# Altium integrated library NSC Switcher.IntLib: 2027 symbols (part 44 of 54)
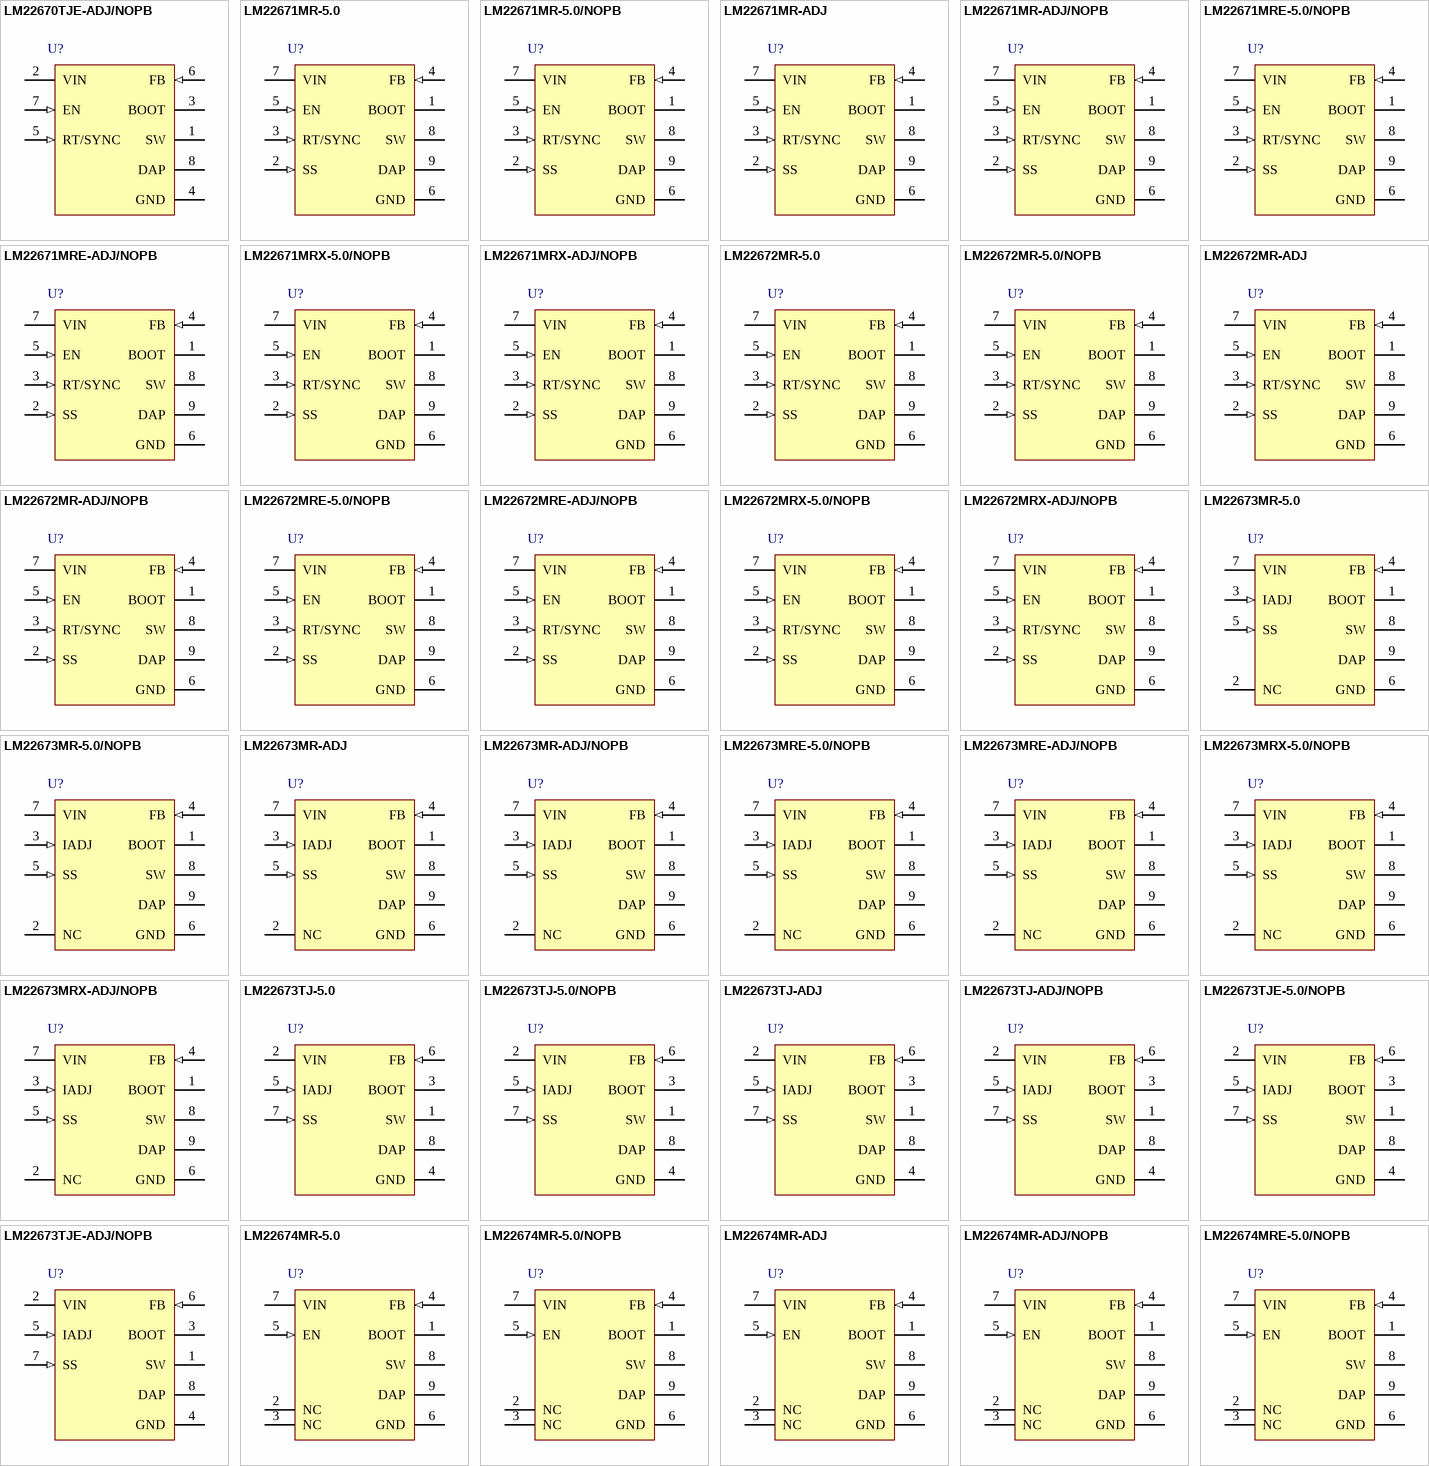
[diagram p106: symbols LM22670TJE-ADJ/NOPB to LM22674MRE-5.0/NOPB]

## LM22671MR-ADJ/NOPB
designator U?
500 mA SIMPLE SWITCHER®, Step-Down Voltage Regulator with Features, 8-pin PSOP, Pb-Free; PartNumber: LM22671MR-ADJ/NOPB; Manufacturer: National Semiconductor; PackageTopMarking: NSXYTT*L22671*ADJ; PowerWise: N; Published: 1-Mar-2010; DatasheetVersion: Oct-2008; PackageVersion: revB, Dec-2007; PackageReference: MRA08B; Publisher: Altium Limited; PackageDescription: Molded, PSOP .193 x .154 x .058in, 8 Lead, .050in Pitch, Large DAP; Supplier 1: Digi-Key; Supplier Part Number 1: LM22671MR-ADJ-ND; RoHS: Y; PinCount: 8; CompType: Switcher; Code_JEDEC: MS-012-AA; ComponentLink1Description: LM22671 Datasheet; ComponentLink1URL: http://www.national.com/ds/LM/LM22671.pdf; ComponentLink2Description: LM22671 Web Page; ComponentLink2URL: http://www.national.com/pf/LM/LM22671.html; ComponentLink3Description: MRA08B Package Page; ComponentLink3URL: http://www.national.com/packaging/folders/mra08b.html
footprint MRA08B_N (SOIC, 8-Leads, Body 4.9x3.9mm, Pitch 1.27mm, Exposed Pad, IPC Medium Density)
footprint MRA08B_L (SOIC, 8-Leads, Body 4.9x3.9mm, Pitch 1.27mm, Exposed Pad, IPC High Density)
footprint MRA08B_M (SOIC, 8-Leads, Body 4.9x3.9mm, Pitch 1.27mm, Exposed Pad, IPC Low Density)
pins: 1 BOOT, 2 SS (in), 3 RT/SYNC (in), 4 FB (in), 5 EN (in), 6 GND (power), 7 VIN (power), 8 SW (power), 9 DAP (power)

## LM22671MRE-5.0/NOPB
designator U?
500 mA SIMPLE SWITCHER®, Step-Down Voltage Regulator with Features, 8-pin PSOP, Pb-Free; PartNumber: LM22671MRE-5.0/NOPB; Manufacturer: National Semiconductor; PackageTopMarking: NSXYTT*L22671*5.0; PowerWise: N; Published: 1-Mar-2010; DatasheetVersion: Oct-2008; PackageVersion: revB, Dec-2007; PackageReference: MRA08B; Publisher: Altium Limited; PackageDescription: Molded, PSOP .193 x .154 x .058in, 8 Lead, .050in Pitch, Large DAP; Supplier 1: Digi-Key; Supplier Part Number 1: LM22671MRE-5.0TR-ND; Supplier 2: Digi-Key; Supplier Part Number 2: LM22671MRE-5.0CT-ND; Supplier 3: Digi-Key; Supplier Part Number 3: LM22671MRE-5.0DKR-ND; Supplier 4: Farnell; Supplier Part Number 4: 1685796; RoHS: Y; PinCount: 8; CompType: Switcher; Code_JEDEC: MS-012-AA; ComponentLink1Description: LM22671 Datasheet; ComponentLink1URL: http://www.national.com/ds/LM/LM22671.pdf; ComponentLink2Description: LM22671 Web Page; ComponentLink2URL: http://www.national.com/pf/LM/LM22671.html; ComponentLink3Description: MRA08B Package Page; ComponentLink3URL: http://www.national.com/packaging/folders/mra08b.html
footprint MRA08B_N (SOIC, 8-Leads, Body 4.9x3.9mm, Pitch 1.27mm, Exposed Pad, IPC Medium Density)
footprint MRA08B_L (SOIC, 8-Leads, Body 4.9x3.9mm, Pitch 1.27mm, Exposed Pad, IPC High Density)
footprint MRA08B_M (SOIC, 8-Leads, Body 4.9x3.9mm, Pitch 1.27mm, Exposed Pad, IPC Low Density)
pins: 1 BOOT, 2 SS (in), 3 RT/SYNC (in), 4 FB (in), 5 EN (in), 6 GND (power), 7 VIN (power), 8 SW (power), 9 DAP (power)

## LM22671MRE-ADJ/NOPB
designator U?
500 mA SIMPLE SWITCHER®, Step-Down Voltage Regulator with Features, 8-pin PSOP, Pb-Free; PartNumber: LM22671MRE-ADJ/NOPB; Manufacturer: National Semiconductor; PackageTopMarking: NSXYTT*L22671*ADJ; PowerWise: N; Published: 1-Mar-2010; DatasheetVersion: Oct-2008; PackageVersion: revB, Dec-2007; PackageReference: MRA08B; Publisher: Altium Limited; PackageDescription: Molded, PSOP .193 x .154 x .058in, 8 Lead, .050in Pitch, Large DAP; Supplier 1: Digi-Key; Supplier Part Number 1: LM22671MRE-ADJTR-ND; Supplier 2: Digi-Key; Supplier Part Number 2: LM22671MRE-ADJCT-ND; Supplier 3: Digi-Key; Supplier Part Number 3: LM22671MRE-ADJDKR-ND; Supplier 4: Farnell; Supplier Part Number 4: 1685795; RoHS: Y; PinCount: 8; CompType: Switcher; Code_JEDEC: MS-012-AA; ComponentLink1Description: LM22671 Datasheet; ComponentLink1URL: http://www.national.com/ds/LM/LM22671.pdf; ComponentLink2Description: LM22671 Web Page; ComponentLink2URL: http://www.national.com/pf/LM/LM22671.html; ComponentLink3Description: MRA08B Package Page; ComponentLink3URL: http://www.national.com/packaging/folders/mra08b.html
footprint MRA08B_N (SOIC, 8-Leads, Body 4.9x3.9mm, Pitch 1.27mm, Exposed Pad, IPC Medium Density)
footprint MRA08B_L (SOIC, 8-Leads, Body 4.9x3.9mm, Pitch 1.27mm, Exposed Pad, IPC High Density)
footprint MRA08B_M (SOIC, 8-Leads, Body 4.9x3.9mm, Pitch 1.27mm, Exposed Pad, IPC Low Density)
pins: 1 BOOT, 2 SS (in), 3 RT/SYNC (in), 4 FB (in), 5 EN (in), 6 GND (power), 7 VIN (power), 8 SW (power), 9 DAP (power)

## LM22671MRX-5.0/NOPB
designator U?
500 mA SIMPLE SWITCHER®, Step-Down Voltage Regulator with Features, 8-pin PSOP, Pb-Free; PartNumber: LM22671MRX-5.0/NOPB; Manufacturer: National Semiconductor; PackageTopMarking: NSXYTT*L22671*5.0; PowerWise: N; Published: 1-Mar-2010; DatasheetVersion: Oct-2008; PackageVersion: revB, Dec-2007; PackageReference: MRA08B; Publisher: Altium Limited; PackageDescription: Molded, PSOP .193 x .154 x .058in, 8 Lead, .050in Pitch, Large DAP; Supplier 1: Digi-Key; Supplier Part Number 1: LM22671MRX-5.0-ND; RoHS: Y; PinCount: 8; CompType: Switcher; Code_JEDEC: MS-012-AA; ComponentLink1Description: LM22671 Datasheet; ComponentLink1URL: http://www.national.com/ds/LM/LM22671.pdf; ComponentLink2Description: LM22671 Web Page; ComponentLink2URL: http://www.national.com/pf/LM/LM22671.html; ComponentLink3Description: MRA08B Package Page; ComponentLink3URL: http://www.national.com/packaging/folders/mra08b.html
footprint MRA08B_N (SOIC, 8-Leads, Body 4.9x3.9mm, Pitch 1.27mm, Exposed Pad, IPC Medium Density)
footprint MRA08B_L (SOIC, 8-Leads, Body 4.9x3.9mm, Pitch 1.27mm, Exposed Pad, IPC High Density)
footprint MRA08B_M (SOIC, 8-Leads, Body 4.9x3.9mm, Pitch 1.27mm, Exposed Pad, IPC Low Density)
pins: 1 BOOT, 2 SS (in), 3 RT/SYNC (in), 4 FB (in), 5 EN (in), 6 GND (power), 7 VIN (power), 8 SW (power), 9 DAP (power)

## LM22671MRX-ADJ/NOPB
designator U?
500 mA SIMPLE SWITCHER®, Step-Down Voltage Regulator with Features, 8-pin PSOP, Pb-Free; PartNumber: LM22671MRX-ADJ/NOPB; Manufacturer: National Semiconductor; PackageTopMarking: NSXYTT*L22671*ADJ; PowerWise: N; Published: 1-Mar-2010; DatasheetVersion: Oct-2008; PackageVersion: revB, Dec-2007; PackageReference: MRA08B; Publisher: Altium Limited; PackageDescription: Molded, PSOP .193 x .154 x .058in, 8 Lead, .050in Pitch, Large DAP; Supplier 1: Digi-Key; Supplier Part Number 1: LM22671MRX-ADJ-ND; RoHS: Y; PinCount: 8; CompType: Switcher; Code_JEDEC: MS-012-AA; ComponentLink1Description: LM22671 Datasheet; ComponentLink1URL: http://www.national.com/ds/LM/LM22671.pdf; ComponentLink2Description: LM22671 Web Page; ComponentLink2URL: http://www.national.com/pf/LM/LM22671.html; ComponentLink3Description: MRA08B Package Page; ComponentLink3URL: http://www.national.com/packaging/folders/mra08b.html
footprint MRA08B_N (SOIC, 8-Leads, Body 4.9x3.9mm, Pitch 1.27mm, Exposed Pad, IPC Medium Density)
footprint MRA08B_L (SOIC, 8-Leads, Body 4.9x3.9mm, Pitch 1.27mm, Exposed Pad, IPC High Density)
footprint MRA08B_M (SOIC, 8-Leads, Body 4.9x3.9mm, Pitch 1.27mm, Exposed Pad, IPC Low Density)
pins: 1 BOOT, 2 SS (in), 3 RT/SYNC (in), 4 FB (in), 5 EN (in), 6 GND (power), 7 VIN (power), 8 SW (power), 9 DAP (power)

## LM22672MR-5.0
designator U?
1A SIMPLE SWITCHER® Step-Down Voltage Regulator with Features, 8-pin PSOP; PartNumber: LM22672MR-5.0; Manufacturer: National Semiconductor; PackageTopMarking: NSXYTT*L22672*5.0; PowerWise: N; Published: 4-Dec-2008; DatasheetVersion: Oct-2008; PackageVersion: revB, Dec-2007; PackageReference: MRA08B; Publisher: Altium Limited; PackageDescription: Molded, PSOP .193 x .154 x .058in, 8 Lead, .050in Pitch, Large DAP; RoHS: Y; PinCount: 8; CompType: Switcher; Code_JEDEC: MS-012-AA; ComponentLink1Description: LM22672 Datasheet; ComponentLink1URL: http://www.national.com/ds/LM/LM22672.pdf; ComponentLink2Description: LM22672 Web Page; ComponentLink2URL: http://www.national.com/pf/LM/LM22672.html; ComponentLink3Description: MRA08B Package Page; ComponentLink3URL: http://www.national.com/packaging/folders/mra08b.html
footprint MRA08B_N (SOIC, 8-Leads, Body 4.9x3.9mm, Pitch 1.27mm, Exposed Pad, IPC Medium Density)
footprint MRA08B_L (SOIC, 8-Leads, Body 4.9x3.9mm, Pitch 1.27mm, Exposed Pad, IPC High Density)
footprint MRA08B_M (SOIC, 8-Leads, Body 4.9x3.9mm, Pitch 1.27mm, Exposed Pad, IPC Low Density)
pins: 1 BOOT, 2 SS (in), 3 RT/SYNC (in), 4 FB (in), 5 EN (in), 6 GND (power), 7 VIN (power), 8 SW (power), 9 DAP (power)

## LM22672MR-5.0/NOPB
designator U?
1A SIMPLE SWITCHER®, Step-Down Voltage Regulator with Features, 8-pin PSOP, Pb-Free; PartNumber: LM22672MR-5.0/NOPB; Manufacturer: National Semiconductor; PackageTopMarking: NSXYTT*L22672*5.0; PowerWise: N; Published: 1-Mar-2010; DatasheetVersion: Oct-2008; PackageVersion: revB, Dec-2007; PackageReference: MRA08B; Publisher: Altium Limited; PackageDescription: Molded, PSOP .193 x .154 x .058in, 8 Lead, .050in Pitch, Large DAP; Supplier 1: Digi-Key; Supplier Part Number 1: LM22672MR-5.0-ND; RoHS: Y; PinCount: 8; CompType: Switcher; Code_JEDEC: MS-012-AA; ComponentLink1Description: LM22672 Datasheet; ComponentLink1URL: http://www.national.com/ds/LM/LM22672.pdf; ComponentLink2Description: LM22672 Web Page; ComponentLink2URL: http://www.national.com/pf/LM/LM22672.html; ComponentLink3Description: MRA08B Package Page; ComponentLink3URL: http://www.national.com/packaging/folders/mra08b.html
footprint MRA08B_N (SOIC, 8-Leads, Body 4.9x3.9mm, Pitch 1.27mm, Exposed Pad, IPC Medium Density)
footprint MRA08B_L (SOIC, 8-Leads, Body 4.9x3.9mm, Pitch 1.27mm, Exposed Pad, IPC High Density)
footprint MRA08B_M (SOIC, 8-Leads, Body 4.9x3.9mm, Pitch 1.27mm, Exposed Pad, IPC Low Density)
pins: 1 BOOT, 2 SS (in), 3 RT/SYNC (in), 4 FB (in), 5 EN (in), 6 GND (power), 7 VIN (power), 8 SW (power), 9 DAP (power)

## LM22672MR-ADJ
designator U?
1A SIMPLE SWITCHER® Step-Down Voltage Regulator with Features, 8-pin PSOP; PartNumber: LM22672MR-ADJ; Manufacturer: National Semiconductor; PackageTopMarking: NSXYTT*L22672*ADJ; PowerWise: N; Published: 4-Dec-2008; DatasheetVersion: Oct-2008; PackageVersion: revB, Dec-2007; PackageReference: MRA08B; Publisher: Altium Limited; PackageDescription: Molded, PSOP .193 x .154 x .058in, 8 Lead, .050in Pitch, Large DAP; RoHS: Y; PinCount: 8; CompType: Switcher; Code_JEDEC: MS-012-AA; ComponentLink1Description: LM22672 Datasheet; ComponentLink1URL: http://www.national.com/ds/LM/LM22672.pdf; ComponentLink2Description: LM22672 Web Page; ComponentLink2URL: http://www.national.com/pf/LM/LM22672.html; ComponentLink3Description: MRA08B Package Page; ComponentLink3URL: http://www.national.com/packaging/folders/mra08b.html
footprint MRA08B_N (SOIC, 8-Leads, Body 4.9x3.9mm, Pitch 1.27mm, Exposed Pad, IPC Medium Density)
footprint MRA08B_L (SOIC, 8-Leads, Body 4.9x3.9mm, Pitch 1.27mm, Exposed Pad, IPC High Density)
footprint MRA08B_M (SOIC, 8-Leads, Body 4.9x3.9mm, Pitch 1.27mm, Exposed Pad, IPC Low Density)
pins: 1 BOOT, 2 SS (in), 3 RT/SYNC (in), 4 FB (in), 5 EN (in), 6 GND (power), 7 VIN (power), 8 SW (power), 9 DAP (power)

## LM22672MR-ADJ/NOPB
designator U?
1A SIMPLE SWITCHER®, Step-Down Voltage Regulator with Features, 8-pin PSOP, Pb-Free; PartNumber: LM22672MR-ADJ/NOPB; Manufacturer: National Semiconductor; PackageTopMarking: NSXYTT*L22672*ADJ; PowerWise: N; Published: 1-Mar-2010; DatasheetVersion: Oct-2008; PackageVersion: revB, Dec-2007; PackageReference: MRA08B; Publisher: Altium Limited; PackageDescription: Molded, PSOP .193 x .154 x .058in, 8 Lead, .050in Pitch, Large DAP; Supplier 1: Digi-Key; Supplier Part Number 1: LM22672MR-ADJ-ND; RoHS: Y; PinCount: 8; CompType: Switcher; Code_JEDEC: MS-012-AA; ComponentLink1Description: LM22672 Datasheet; ComponentLink1URL: http://www.national.com/ds/LM/LM22672.pdf; ComponentLink2Description: LM22672 Web Page; ComponentLink2URL: http://www.national.com/pf/LM/LM22672.html; ComponentLink3Description: MRA08B Package Page; ComponentLink3URL: http://www.national.com/packaging/folders/mra08b.html
footprint MRA08B_N (SOIC, 8-Leads, Body 4.9x3.9mm, Pitch 1.27mm, Exposed Pad, IPC Medium Density)
footprint MRA08B_L (SOIC, 8-Leads, Body 4.9x3.9mm, Pitch 1.27mm, Exposed Pad, IPC High Density)
footprint MRA08B_M (SOIC, 8-Leads, Body 4.9x3.9mm, Pitch 1.27mm, Exposed Pad, IPC Low Density)
pins: 1 BOOT, 2 SS (in), 3 RT/SYNC (in), 4 FB (in), 5 EN (in), 6 GND (power), 7 VIN (power), 8 SW (power), 9 DAP (power)

## LM22672MRE-5.0/NOPB
designator U?
1A SIMPLE SWITCHER®, Step-Down Voltage Regulator with Features, 8-pin PSOP, Pb-Free; PartNumber: LM22672MRE-5.0/NOPB; Manufacturer: National Semiconductor; PackageTopMarking: NSXYTT*L22672*5.0; PowerWise: N; Published: 1-Mar-2010; DatasheetVersion: Oct-2008; PackageVersion: revB, Dec-2007; PackageReference: MRA08B; Publisher: Altium Limited; PackageDescription: Molded, PSOP .193 x .154 x .058in, 8 Lead, .050in Pitch, Large DAP; Supplier 1: Digi-Key; Supplier Part Number 1: LM22672MRE-5.0TR-ND; Supplier 2: Digi-Key; Supplier Part Number 2: LM22672MRE-5.0CT-ND; Supplier 3: Digi-Key; Supplier Part Number 3: LM22672MRE-5.0DKR-ND; Supplier 4: Farnell; Supplier Part Number 4: 1684984; RoHS: Y; PinCount: 8; CompType: Switcher; Code_JEDEC: MS-012-AA; ComponentLink1Description: LM22672 Datasheet; ComponentLink1URL: http://www.national.com/ds/LM/LM22672.pdf; ComponentLink2Description: LM22672 Web Page; ComponentLink2URL: http://www.national.com/pf/LM/LM22672.html; ComponentLink3Description: MRA08B Package Page; ComponentLink3URL: http://www.national.com/packaging/folders/mra08b.html
footprint MRA08B_N (SOIC, 8-Leads, Body 4.9x3.9mm, Pitch 1.27mm, Exposed Pad, IPC Medium Density)
footprint MRA08B_L (SOIC, 8-Leads, Body 4.9x3.9mm, Pitch 1.27mm, Exposed Pad, IPC High Density)
footprint MRA08B_M (SOIC, 8-Leads, Body 4.9x3.9mm, Pitch 1.27mm, Exposed Pad, IPC Low Density)
pins: 1 BOOT, 2 SS (in), 3 RT/SYNC (in), 4 FB (in), 5 EN (in), 6 GND (power), 7 VIN (power), 8 SW (power), 9 DAP (power)

## LM22672MRE-ADJ/NOPB
designator U?
1A SIMPLE SWITCHER®, Step-Down Voltage Regulator with Features, 8-pin PSOP, Pb-Free; PartNumber: LM22672MRE-ADJ/NOPB; Manufacturer: National Semiconductor; PackageTopMarking: NSXYTT*L22672*ADJ; PowerWise: N; Published: 1-Mar-2010; DatasheetVersion: Oct-2008; PackageVersion: revB, Dec-2007; PackageReference: MRA08B; Publisher: Altium Limited; PackageDescription: Molded, PSOP .193 x .154 x .058in, 8 Lead, .050in Pitch, Large DAP; Supplier 1: Digi-Key; Supplier Part Number 1: LM22672MRE-ADJTR-ND; Supplier 2: Digi-Key; Supplier Part Number 2: LM22672MRE-ADJCT-ND; Supplier 3: Digi-Key; Supplier Part Number 3: LM22672MRE-ADJDKR-ND; Supplier 4: Farnell; Supplier Part Number 4: 1685797; RoHS: Y; PinCount: 8; CompType: Switcher; Code_JEDEC: MS-012-AA; ComponentLink1Description: LM22672 Datasheet; ComponentLink1URL: http://www.national.com/ds/LM/LM22672.pdf; ComponentLink2Description: LM22672 Web Page; ComponentLink2URL: http://www.national.com/pf/LM/LM22672.html; ComponentLink3Description: MRA08B Package Page; ComponentLink3URL: http://www.national.com/packaging/folders/mra08b.html
footprint MRA08B_N (SOIC, 8-Leads, Body 4.9x3.9mm, Pitch 1.27mm, Exposed Pad, IPC Medium Density)
footprint MRA08B_L (SOIC, 8-Leads, Body 4.9x3.9mm, Pitch 1.27mm, Exposed Pad, IPC High Density)
footprint MRA08B_M (SOIC, 8-Leads, Body 4.9x3.9mm, Pitch 1.27mm, Exposed Pad, IPC Low Density)
pins: 1 BOOT, 2 SS (in), 3 RT/SYNC (in), 4 FB (in), 5 EN (in), 6 GND (power), 7 VIN (power), 8 SW (power), 9 DAP (power)

## LM22672MRX-5.0/NOPB
designator U?
1A SIMPLE SWITCHER®, Step-Down Voltage Regulator with Features, 8-pin PSOP, Pb-Free; PartNumber: LM22672MRX-5.0/NOPB; Manufacturer: National Semiconductor; PackageTopMarking: NSXYTT*L22672*5.0; PowerWise: N; Published: 1-Mar-2010; DatasheetVersion: Oct-2008; PackageVersion: revB, Dec-2007; PackageReference: MRA08B; Publisher: Altium Limited; PackageDescription: Molded, PSOP .193 x .154 x .058in, 8 Lead, .050in Pitch, Large DAP; Supplier 1: Digi-Key; Supplier Part Number 1: LM22672MRX-5.0-ND; RoHS: Y; PinCount: 8; CompType: Switcher; Code_JEDEC: MS-012-AA; ComponentLink1Description: LM22672 Datasheet; ComponentLink1URL: http://www.national.com/ds/LM/LM22672.pdf; ComponentLink2Description: LM22672 Web Page; ComponentLink2URL: http://www.national.com/pf/LM/LM22672.html; ComponentLink3Description: MRA08B Package Page; ComponentLink3URL: http://www.national.com/packaging/folders/mra08b.html
footprint MRA08B_N (SOIC, 8-Leads, Body 4.9x3.9mm, Pitch 1.27mm, Exposed Pad, IPC Medium Density)
footprint MRA08B_L (SOIC, 8-Leads, Body 4.9x3.9mm, Pitch 1.27mm, Exposed Pad, IPC High Density)
footprint MRA08B_M (SOIC, 8-Leads, Body 4.9x3.9mm, Pitch 1.27mm, Exposed Pad, IPC Low Density)
pins: 1 BOOT, 2 SS (in), 3 RT/SYNC (in), 4 FB (in), 5 EN (in), 6 GND (power), 7 VIN (power), 8 SW (power), 9 DAP (power)

## LM22672MRX-ADJ/NOPB
designator U?
1A SIMPLE SWITCHER®, Step-Down Voltage Regulator with Features, 8-pin PSOP, Pb-Free; PartNumber: LM22672MRX-ADJ/NOPB; Manufacturer: National Semiconductor; PackageTopMarking: NSXYTT*L22672*ADJ; PowerWise: N; Published: 1-Mar-2010; DatasheetVersion: Oct-2008; PackageVersion: revB, Dec-2007; PackageReference: MRA08B; Publisher: Altium Limited; PackageDescription: Molded, PSOP .193 x .154 x .058in, 8 Lead, .050in Pitch, Large DAP; Supplier 1: Digi-Key; Supplier Part Number 1: LM22672MRX-ADJ-ND; RoHS: Y; PinCount: 8; CompType: Switcher; Code_JEDEC: MS-012-AA; ComponentLink1Description: LM22672 Datasheet; ComponentLink1URL: http://www.national.com/ds/LM/LM22672.pdf; ComponentLink2Description: LM22672 Web Page; ComponentLink2URL: http://www.national.com/pf/LM/LM22672.html; ComponentLink3Description: MRA08B Package Page; ComponentLink3URL: http://www.national.com/packaging/folders/mra08b.html
footprint MRA08B_N (SOIC, 8-Leads, Body 4.9x3.9mm, Pitch 1.27mm, Exposed Pad, IPC Medium Density)
footprint MRA08B_L (SOIC, 8-Leads, Body 4.9x3.9mm, Pitch 1.27mm, Exposed Pad, IPC High Density)
footprint MRA08B_M (SOIC, 8-Leads, Body 4.9x3.9mm, Pitch 1.27mm, Exposed Pad, IPC Low Density)
pins: 1 BOOT, 2 SS (in), 3 RT/SYNC (in), 4 FB (in), 5 EN (in), 6 GND (power), 7 VIN (power), 8 SW (power), 9 DAP (power)

## LM22673MR-5.0
designator U?
3A SIMPLE SWITCHER® Step-Down Voltage Regulator with Adjustable Soft-Start and Current Limit, 8-pin PSOP; PartNumber: LM22673MR-5.0; Manufacturer: National Semiconductor; PackageTopMarking: NSXYTT*L22673*5.0; PowerWise: N; Published: 4-Dec-2008; DatasheetVersion: Nov-2008; PackageVersion: revB, Dec-2007; PackageReference: MRA08B; Publisher: Altium Limited; PackageDescription: Molded, PSOP .193 x .154 x .058in, 8 Lead, .050in Pitch, Large DAP; RoHS: Y; PinCount: 8; CompType: Switcher; Code_JEDEC: MS-012-AA; ComponentLink1Description: LM22673 Datasheet; ComponentLink1URL: http://www.national.com/ds/LM/LM22673.pdf; ComponentLink2Description: LM22673 Web Page; ComponentLink2URL: http://www.national.com/pf/LM/LM22673.html; ComponentLink3Description: MRA08B Package Page; ComponentLink3URL: http://www.national.com/packaging/folders/mra08b.html
footprint MRA08B_N (SOIC, 8-Leads, Body 4.9x3.9mm, Pitch 1.27mm, Exposed Pad, IPC Medium Density)
footprint MRA08B_L (SOIC, 8-Leads, Body 4.9x3.9mm, Pitch 1.27mm, Exposed Pad, IPC High Density)
footprint MRA08B_M (SOIC, 8-Leads, Body 4.9x3.9mm, Pitch 1.27mm, Exposed Pad, IPC Low Density)
pins: 1 BOOT, 2 NC, 3 IADJ (in), 4 FB (in), 5 SS (in), 6 GND (power), 7 VIN (power), 8 SW (power), 9 DAP (power)

## LM22673MR-5.0/NOPB
designator U?
3A SIMPLE SWITCHER®, Step-Down Voltage Regulator with Adjustable Soft-Start and Current Limit, 8-pin PSOP, Pb-Free; PartNumber: LM22673MR-5.0/NOPB; Manufacturer: National Semiconductor; PackageTopMarking: NSXYTT*L22673*5.0; PowerWise: N; Published: 1-Mar-2010; DatasheetVersion: Nov-2008; PackageVersion: revB, Dec-2007; PackageReference: MRA08B; Publisher: Altium Limited; PackageDescription: Molded, PSOP .193 x .154 x .058in, 8 Lead, .050in Pitch, Large DAP; Supplier 1: Digi-Key; Supplier Part Number 1: LM22673MR-5.0-ND; RoHS: Y; PinCount: 8; CompType: Switcher; Code_JEDEC: MS-012-AA; ComponentLink1Description: LM22673 Datasheet; ComponentLink1URL: http://www.national.com/ds/LM/LM22673.pdf; ComponentLink2Description: LM22673 Web Page; ComponentLink2URL: http://www.national.com/pf/LM/LM22673.html; ComponentLink3Description: MRA08B Package Page; ComponentLink3URL: http://www.national.com/packaging/folders/mra08b.html
footprint MRA08B_N (SOIC, 8-Leads, Body 4.9x3.9mm, Pitch 1.27mm, Exposed Pad, IPC Medium Density)
footprint MRA08B_L (SOIC, 8-Leads, Body 4.9x3.9mm, Pitch 1.27mm, Exposed Pad, IPC High Density)
footprint MRA08B_M (SOIC, 8-Leads, Body 4.9x3.9mm, Pitch 1.27mm, Exposed Pad, IPC Low Density)
pins: 1 BOOT, 2 NC, 3 IADJ (in), 4 FB (in), 5 SS (in), 6 GND (power), 7 VIN (power), 8 SW (power), 9 DAP (power)

## LM22673MR-ADJ
designator U?
3A SIMPLE SWITCHER® Step-Down Voltage Regulator with Adjustable Soft-Start and Current Limit, 8-pin PSOP; PartNumber: LM22673MR-ADJ; Manufacturer: National Semiconductor; PackageTopMarking: NSXYTT*L22673*ADJ; PowerWise: N; Published: 4-Dec-2008; DatasheetVersion: Nov-2008; PackageVersion: revB, Dec-2007; PackageReference: MRA08B; Publisher: Altium Limited; PackageDescription: Molded, PSOP .193 x .154 x .058in, 8 Lead, .050in Pitch, Large DAP; Supplier 1: Farnell; Supplier Part Number 1: 1657736; RoHS: Y; PinCount: 8; CompType: Switcher; Code_JEDEC: MS-012-AA; ComponentLink1Description: LM22673 Datasheet; ComponentLink1URL: http://www.national.com/ds/LM/LM22673.pdf; ComponentLink2Description: LM22673 Web Page; ComponentLink2URL: http://www.national.com/pf/LM/LM22673.html; ComponentLink3Description: MRA08B Package Page; ComponentLink3URL: http://www.national.com/packaging/folders/mra08b.html
footprint MRA08B_N (SOIC, 8-Leads, Body 4.9x3.9mm, Pitch 1.27mm, Exposed Pad, IPC Medium Density)
footprint MRA08B_L (SOIC, 8-Leads, Body 4.9x3.9mm, Pitch 1.27mm, Exposed Pad, IPC High Density)
footprint MRA08B_M (SOIC, 8-Leads, Body 4.9x3.9mm, Pitch 1.27mm, Exposed Pad, IPC Low Density)
pins: 1 BOOT, 2 NC, 3 IADJ (in), 4 FB (in), 5 SS (in), 6 GND (power), 7 VIN (power), 8 SW (power), 9 DAP (power)

## LM22673MR-ADJ/NOPB
designator U?
3A SIMPLE SWITCHER®, Step-Down Voltage Regulator with Adjustable Soft-Start and Current Limit, 8-pin PSOP, Pb-Free; PartNumber: LM22673MR-ADJ/NOPB; Manufacturer: National Semiconductor; PackageTopMarking: NSXYTT*L22673*ADJ; PowerWise: N; Published: 1-Mar-2010; DatasheetVersion: Nov-2008; PackageVersion: revB, Dec-2007; PackageReference: MRA08B; Publisher: Altium Limited; PackageDescription: Molded, PSOP .193 x .154 x .058in, 8 Lead, .050in Pitch, Large DAP; Supplier 1: Digi-Key; Supplier Part Number 1: LM22673MR-ADJ-ND; RoHS: Y; PinCount: 8; CompType: Switcher; Code_JEDEC: MS-012-AA; ComponentLink1Description: LM22673 Datasheet; ComponentLink1URL: http://www.national.com/ds/LM/LM22673.pdf; ComponentLink2Description: LM22673 Web Page; ComponentLink2URL: http://www.national.com/pf/LM/LM22673.html; ComponentLink3Description: MRA08B Package Page; ComponentLink3URL: http://www.national.com/packaging/folders/mra08b.html
footprint MRA08B_N (SOIC, 8-Leads, Body 4.9x3.9mm, Pitch 1.27mm, Exposed Pad, IPC Medium Density)
footprint MRA08B_L (SOIC, 8-Leads, Body 4.9x3.9mm, Pitch 1.27mm, Exposed Pad, IPC High Density)
footprint MRA08B_M (SOIC, 8-Leads, Body 4.9x3.9mm, Pitch 1.27mm, Exposed Pad, IPC Low Density)
pins: 1 BOOT, 2 NC, 3 IADJ (in), 4 FB (in), 5 SS (in), 6 GND (power), 7 VIN (power), 8 SW (power), 9 DAP (power)

## LM22673MRE-5.0/NOPB
designator U?
3A SIMPLE SWITCHER®, Step-Down Voltage Regulator with Adjustable Soft-Start and Current Limit, 8-pin PSOP, Pb-Free; PartNumber: LM22673MRE-5.0/NOPB; Manufacturer: National Semiconductor; PackageTopMarking: NSXYTT*L22673*5.0; PowerWise: N; Published: 1-Mar-2010; DatasheetVersion: Nov-2008; PackageVersion: revB, Dec-2007; PackageReference: MRA08B; Publisher: Altium Limited; PackageDescription: Molded, PSOP .193 x .154 x .058in, 8 Lead, .050in Pitch, Large DAP; Supplier 1: Digi-Key; Supplier Part Number 1: LM22673MRE-5.0TR-ND; Supplier 2: Digi-Key; Supplier Part Number 2: LM22673MRE-5.0CT-ND; Supplier 3: Digi-Key; Supplier Part Number 3: LM22673MRE-5.0DKR-ND; Supplier 4: Farnell; Supplier Part Number 4: 1685799; RoHS: Y; PinCount: 8; CompType: Switcher; Code_JEDEC: MS-012-AA; ComponentLink1Description: LM22673 Datasheet; ComponentLink1URL: http://www.national.com/ds/LM/LM22673.pdf; ComponentLink2Description: LM22673 Web Page; ComponentLink2URL: http://www.national.com/pf/LM/LM22673.html; ComponentLink3Description: MRA08B Package Page; ComponentLink3URL: http://www.national.com/packaging/folders/mra08b.html
footprint MRA08B_N (SOIC, 8-Leads, Body 4.9x3.9mm, Pitch 1.27mm, Exposed Pad, IPC Medium Density)
footprint MRA08B_L (SOIC, 8-Leads, Body 4.9x3.9mm, Pitch 1.27mm, Exposed Pad, IPC High Density)
footprint MRA08B_M (SOIC, 8-Leads, Body 4.9x3.9mm, Pitch 1.27mm, Exposed Pad, IPC Low Density)
pins: 1 BOOT, 2 NC, 3 IADJ (in), 4 FB (in), 5 SS (in), 6 GND (power), 7 VIN (power), 8 SW (power), 9 DAP (power)

## LM22673MRE-ADJ/NOPB
designator U?
3A SIMPLE SWITCHER®, Step-Down Voltage Regulator with Adjustable Soft-Start and Current Limit, 8-pin PSOP, Pb-Free; PartNumber: LM22673MRE-ADJ/NOPB; Manufacturer: National Semiconductor; PackageTopMarking: NSXYTT*L22673*ADJ; PowerWise: N; Published: 1-Mar-2010; DatasheetVersion: Nov-2008; PackageVersion: revB, Dec-2007; PackageReference: MRA08B; Publisher: Altium Limited; PackageDescription: Molded, PSOP .193 x .154 x .058in, 8 Lead, .050in Pitch, Large DAP; Supplier 1: Digi-Key; Supplier Part Number 1: LM22673MRE-ADJTR-ND; Supplier 2: Digi-Key; Supplier Part Number 2: LM22673MRE-ADJCT-ND; Supplier 3: Digi-Key; Supplier Part Number 3: LM22673MRE-ADJDKR-ND; Supplier 4: Farnell; Supplier Part Number 4: 1685798; RoHS: Y; PinCount: 8; CompType: Switcher; Code_JEDEC: MS-012-AA; ComponentLink1Description: LM22673 Datasheet; ComponentLink1URL: http://www.national.com/ds/LM/LM22673.pdf; ComponentLink2Description: LM22673 Web Page; ComponentLink2URL: http://www.national.com/pf/LM/LM22673.html; ComponentLink3Description: MRA08B Package Page; ComponentLink3URL: http://www.national.com/packaging/folders/mra08b.html
footprint MRA08B_N (SOIC, 8-Leads, Body 4.9x3.9mm, Pitch 1.27mm, Exposed Pad, IPC Medium Density)
footprint MRA08B_L (SOIC, 8-Leads, Body 4.9x3.9mm, Pitch 1.27mm, Exposed Pad, IPC High Density)
footprint MRA08B_M (SOIC, 8-Leads, Body 4.9x3.9mm, Pitch 1.27mm, Exposed Pad, IPC Low Density)
pins: 1 BOOT, 2 NC, 3 IADJ (in), 4 FB (in), 5 SS (in), 6 GND (power), 7 VIN (power), 8 SW (power), 9 DAP (power)

## LM22673MRX-5.0/NOPB
designator U?
3A SIMPLE SWITCHER®, Step-Down Voltage Regulator with Adjustable Soft-Start and Current Limit, 8-pin PSOP, Pb-Free; PartNumber: LM22673MRX-5.0/NOPB; Manufacturer: National Semiconductor; PackageTopMarking: NSXYTT*L22673*5.0; PowerWise: N; Published: 1-Mar-2010; DatasheetVersion: Nov-2008; PackageVersion: revB, Dec-2007; PackageReference: MRA08B; Publisher: Altium Limited; PackageDescription: Molded, PSOP .193 x .154 x .058in, 8 Lead, .050in Pitch, Large DAP; Supplier 1: Digi-Key; Supplier Part Number 1: LM22673MRX-5.0-ND; RoHS: Y; PinCount: 8; CompType: Switcher; Code_JEDEC: MS-012-AA; ComponentLink1Description: LM22673 Datasheet; ComponentLink1URL: http://www.national.com/ds/LM/LM22673.pdf; ComponentLink2Description: LM22673 Web Page; ComponentLink2URL: http://www.national.com/pf/LM/LM22673.html; ComponentLink3Description: MRA08B Package Page; ComponentLink3URL: http://www.national.com/packaging/folders/mra08b.html
footprint MRA08B_N (SOIC, 8-Leads, Body 4.9x3.9mm, Pitch 1.27mm, Exposed Pad, IPC Medium Density)
footprint MRA08B_L (SOIC, 8-Leads, Body 4.9x3.9mm, Pitch 1.27mm, Exposed Pad, IPC High Density)
footprint MRA08B_M (SOIC, 8-Leads, Body 4.9x3.9mm, Pitch 1.27mm, Exposed Pad, IPC Low Density)
pins: 1 BOOT, 2 NC, 3 IADJ (in), 4 FB (in), 5 SS (in), 6 GND (power), 7 VIN (power), 8 SW (power), 9 DAP (power)

## LM22673MRX-ADJ/NOPB
designator U?
3A SIMPLE SWITCHER®, Step-Down Voltage Regulator with Adjustable Soft-Start and Current Limit, 8-pin PSOP, Pb-Free; PartNumber: LM22673MRX-ADJ/NOPB; Manufacturer: National Semiconductor; PackageTopMarking: NSXYTT*L22673*ADJ; PowerWise: N; Published: 1-Mar-2010; DatasheetVersion: Nov-2008; PackageVersion: revB, Dec-2007; PackageReference: MRA08B; Publisher: Altium Limited; PackageDescription: Molded, PSOP .193 x .154 x .058in, 8 Lead, .050in Pitch, Large DAP; Supplier 1: Digi-Key; Supplier Part Number 1: LM22673MRX-ADJ-ND; RoHS: Y; PinCount: 8; CompType: Switcher; Code_JEDEC: MS-012-AA; ComponentLink1Description: LM22673 Datasheet; ComponentLink1URL: http://www.national.com/ds/LM/LM22673.pdf; ComponentLink2Description: LM22673 Web Page; ComponentLink2URL: http://www.national.com/pf/LM/LM22673.html; ComponentLink3Description: MRA08B Package Page; ComponentLink3URL: http://www.national.com/packaging/folders/mra08b.html
footprint MRA08B_N (SOIC, 8-Leads, Body 4.9x3.9mm, Pitch 1.27mm, Exposed Pad, IPC Medium Density)
footprint MRA08B_L (SOIC, 8-Leads, Body 4.9x3.9mm, Pitch 1.27mm, Exposed Pad, IPC High Density)
footprint MRA08B_M (SOIC, 8-Leads, Body 4.9x3.9mm, Pitch 1.27mm, Exposed Pad, IPC Low Density)
pins: 1 BOOT, 2 NC, 3 IADJ (in), 4 FB (in), 5 SS (in), 6 GND (power), 7 VIN (power), 8 SW (power), 9 DAP (power)

## LM22673TJ-5.0
designator U?
3A SIMPLE SWITCHER® Step-Down Voltage Regulator with Adjustable Soft-Start and Current Limit, 7-pin TO-263 Thin; PartNumber: LM22673TJ-5.0; Manufacturer: National Semiconductor; PackageTopMarking: NSUZXYTTE#*LM22673*TJ-5.0; PowerWise: N; Published: 4-Dec-2008; DatasheetVersion: Nov-2008; PackageVersion: revC, Jan-2008; PackageReference: TJ7A; Publisher: Altium Limited; PackageDescription: Thin TO-263, Molded, 9.85 x 10.16 x 2mm Body, 7 Lead, 1.27mm Pitch, Surface Mount; RoHS: Y; PinCount: 7; CompType: Switcher; ComponentLink1Description: LM22673 Datasheet; ComponentLink1URL: http://www.national.com/ds/LM/LM22673.pdf; ComponentLink2Description: LM22673 Web Page; ComponentLink2URL: http://www.national.com/pf/LM/LM22673.html; ComponentLink3Description: TJ7A Package Page; ComponentLink3URL: http://www.national.com/packaging/folders/tj7a.html
footprint TJ7A_N (D2-PAK, 8-Leads, Body 9.9x10.2mm, Pitch 1.27mm, Lead Span 14mm, IPC Medium Density)
footprint TJ7A_L (D2-PAK, 8-Leads, Body 9.9x10.2mm, Pitch 1.27mm, Lead Span 14mm, IPC High Density)
footprint TJ7A_M (D2-PAK, 8-Leads, Body 9.9x10.2mm, Pitch 1.27mm, Lead Span 14mm, IPC Low Density)
pins: 1 SW (power), 2 VIN (power), 3 BOOT, 4 GND (power), 5 IADJ (in), 6 FB (in), 7 SS (in), 8 DAP (power)

## LM22673TJ-5.0/NOPB
designator U?
3A SIMPLE SWITCHER®, Step-Down Voltage Regulator with Adjustable Soft-Start and Current Limit, 7-pin TO-263 Thin, Pb-Free; PartNumber: LM22673TJ-5.0/NOPB; Manufacturer: National Semiconductor; PackageTopMarking: NSUZXYTTE#*LM22673*TJ-5.0; PowerWise: N; Published: 1-Mar-2010; DatasheetVersion: Nov-2008; PackageVersion: revC, Jan-2008; PackageReference: TJ7A; Publisher: Altium Limited; PackageDescription: Thin TO-263, Molded, 9.85 x 10.16 x 2mm Body, 7 Lead, 1.27mm Pitch, Surface Mount; Supplier 1: Digi-Key; Supplier Part Number 1: LM22673TJ-5.0-ND; RoHS: Y; PinCount: 7; CompType: Switcher; ComponentLink1Description: LM22673 Datasheet; ComponentLink1URL: http://www.national.com/ds/LM/LM22673.pdf; ComponentLink2Description: LM22673 Web Page; ComponentLink2URL: http://www.national.com/pf/LM/LM22673.html; ComponentLink3Description: TJ7A Package Page; ComponentLink3URL: http://www.national.com/packaging/folders/tj7a.html
footprint TJ7A_N (D2-PAK, 8-Leads, Body 9.9x10.2mm, Pitch 1.27mm, Lead Span 14mm, IPC Medium Density)
footprint TJ7A_L (D2-PAK, 8-Leads, Body 9.9x10.2mm, Pitch 1.27mm, Lead Span 14mm, IPC High Density)
footprint TJ7A_M (D2-PAK, 8-Leads, Body 9.9x10.2mm, Pitch 1.27mm, Lead Span 14mm, IPC Low Density)
pins: 1 SW (power), 2 VIN (power), 3 BOOT, 4 GND (power), 5 IADJ (in), 6 FB (in), 7 SS (in), 8 DAP (power)

## LM22673TJ-ADJ
designator U?
3A SIMPLE SWITCHER® Step-Down Voltage Regulator with Adjustable Soft-Start and Current Limit, 7-pin TO-263 Thin; PartNumber: LM22673TJ-ADJ; Manufacturer: National Semiconductor; PackageTopMarking: NSUZXYTTE#*LM22673*TJ-ADJ; PowerWise: N; Published: 4-Dec-2008; DatasheetVersion: Nov-2008; PackageVersion: revC, Jan-2008; PackageReference: TJ7A; Publisher: Altium Limited; PackageDescription: Thin TO-263, Molded, 9.85 x 10.16 x 2mm Body, 7 Lead, 1.27mm Pitch, Surface Mount; RoHS: Y; PinCount: 7; CompType: Switcher; ComponentLink1Description: LM22673 Datasheet; ComponentLink1URL: http://www.national.com/ds/LM/LM22673.pdf; ComponentLink2Description: LM22673 Web Page; ComponentLink2URL: http://www.national.com/pf/LM/LM22673.html; ComponentLink3Description: TJ7A Package Page; ComponentLink3URL: http://www.national.com/packaging/folders/tj7a.html
footprint TJ7A_N (D2-PAK, 8-Leads, Body 9.9x10.2mm, Pitch 1.27mm, Lead Span 14mm, IPC Medium Density)
footprint TJ7A_L (D2-PAK, 8-Leads, Body 9.9x10.2mm, Pitch 1.27mm, Lead Span 14mm, IPC High Density)
footprint TJ7A_M (D2-PAK, 8-Leads, Body 9.9x10.2mm, Pitch 1.27mm, Lead Span 14mm, IPC Low Density)
pins: 1 SW (power), 2 VIN (power), 3 BOOT, 4 GND (power), 5 IADJ (in), 6 FB (in), 7 SS (in), 8 DAP (power)

## LM22673TJ-ADJ/NOPB
designator U?
3A SIMPLE SWITCHER®, Step-Down Voltage Regulator with Adjustable Soft-Start and Current Limit, 7-pin TO-263 Thin, Pb-Free; PartNumber: LM22673TJ-ADJ/NOPB; Manufacturer: National Semiconductor; PackageTopMarking: NSUZXYTTE#*LM22673*TJ-ADJ; PowerWise: N; Published: 1-Mar-2010; DatasheetVersion: Nov-2008; PackageVersion: revC, Jan-2008; PackageReference: TJ7A; Publisher: Altium Limited; PackageDescription: Thin TO-263, Molded, 9.85 x 10.16 x 2mm Body, 7 Lead, 1.27mm Pitch, Surface Mount; Supplier 1: Digi-Key; Supplier Part Number 1: LM22673TJ-ADJ-ND; RoHS: Y; PinCount: 7; CompType: Switcher; ComponentLink1Description: LM22673 Datasheet; ComponentLink1URL: http://www.national.com/ds/LM/LM22673.pdf; ComponentLink2Description: LM22673 Web Page; ComponentLink2URL: http://www.national.com/pf/LM/LM22673.html; ComponentLink3Description: TJ7A Package Page; ComponentLink3URL: http://www.national.com/packaging/folders/tj7a.html
footprint TJ7A_N (D2-PAK, 8-Leads, Body 9.9x10.2mm, Pitch 1.27mm, Lead Span 14mm, IPC Medium Density)
footprint TJ7A_L (D2-PAK, 8-Leads, Body 9.9x10.2mm, Pitch 1.27mm, Lead Span 14mm, IPC High Density)
footprint TJ7A_M (D2-PAK, 8-Leads, Body 9.9x10.2mm, Pitch 1.27mm, Lead Span 14mm, IPC Low Density)
pins: 1 SW (power), 2 VIN (power), 3 BOOT, 4 GND (power), 5 IADJ (in), 6 FB (in), 7 SS (in), 8 DAP (power)

## LM22673TJE-5.0/NOPB
designator U?
3A SIMPLE SWITCHER®, Step-Down Voltage Regulator with Adjustable Soft-Start and Current Limit, 7-pin TO-263 Thin, Pb-Free; PartNumber: LM22673TJE-5.0/NOPB; Manufacturer: National Semiconductor; PackageTopMarking: NSUZXYTTE#*LM22673*TJ-5.0; PowerWise: N; Published: 1-Mar-2010; DatasheetVersion: Nov-2008; PackageVersion: revC, Jan-2008; PackageReference: TJ7A; Publisher: Altium Limited; PackageDescription: Thin TO-263, Molded, 9.85 x 10.16 x 2mm Body, 7 Lead, 1.27mm Pitch, Surface Mount; Supplier 1: Digi-Key; Supplier Part Number 1: LM22673TJE-5.0TR-ND; Supplier 2: Digi-Key; Supplier Part Number 2: LM22673TJE-5.0CT-ND; Supplier 3: Digi-Key; Supplier Part Number 3: LM22673TJE-5.0DKR-ND; Supplier 4: Farnell; Supplier Part Number 4: 1685801; RoHS: Y; PinCount: 7; CompType: Switcher; ComponentLink1Description: LM22673 Datasheet; ComponentLink1URL: http://www.national.com/ds/LM/LM22673.pdf; ComponentLink2Description: LM22673 Web Page; ComponentLink2URL: http://www.national.com/pf/LM/LM22673.html; ComponentLink3Description: TJ7A Package Page; ComponentLink3URL: http://www.national.com/packaging/folders/tj7a.html
footprint TJ7A_N (D2-PAK, 8-Leads, Body 9.9x10.2mm, Pitch 1.27mm, Lead Span 14mm, IPC Medium Density)
footprint TJ7A_L (D2-PAK, 8-Leads, Body 9.9x10.2mm, Pitch 1.27mm, Lead Span 14mm, IPC High Density)
footprint TJ7A_M (D2-PAK, 8-Leads, Body 9.9x10.2mm, Pitch 1.27mm, Lead Span 14mm, IPC Low Density)
pins: 1 SW (power), 2 VIN (power), 3 BOOT, 4 GND (power), 5 IADJ (in), 6 FB (in), 7 SS (in), 8 DAP (power)

## LM22673TJE-ADJ/NOPB
designator U?
3A SIMPLE SWITCHER®, Step-Down Voltage Regulator with Adjustable Soft-Start and Current Limit, 7-pin TO-263 Thin, Pb-Free; PartNumber: LM22673TJE-ADJ/NOPB; Manufacturer: National Semiconductor; PackageTopMarking: NSUZXYTTE#*LM22673*TJ-ADJ; PowerWise: N; Published: 1-Mar-2010; DatasheetVersion: Nov-2008; PackageVersion: revC, Jan-2008; PackageReference: TJ7A; Publisher: Altium Limited; PackageDescription: Thin TO-263, Molded, 9.85 x 10.16 x 2mm Body, 7 Lead, 1.27mm Pitch, Surface Mount; Supplier 1: Digi-Key; Supplier Part Number 1: LM22673TJE-ADJTR-ND; Supplier 2: Digi-Key; Supplier Part Number 2: LM22673TJE-ADJCT-ND; Supplier 3: Digi-Key; Supplier Part Number 3: LM22673TJE-ADJDKR-ND; Supplier 4: Farnell; Supplier Part Number 4: 1685800; RoHS: Y; PinCount: 7; CompType: Switcher; ComponentLink1Description: LM22673 Datasheet; ComponentLink1URL: http://www.national.com/ds/LM/LM22673.pdf; ComponentLink2Description: LM22673 Web Page; ComponentLink2URL: http://www.national.com/pf/LM/LM22673.html; ComponentLink3Description: TJ7A Package Page; ComponentLink3URL: http://www.national.com/packaging/folders/tj7a.html
footprint TJ7A_N (D2-PAK, 8-Leads, Body 9.9x10.2mm, Pitch 1.27mm, Lead Span 14mm, IPC Medium Density)
footprint TJ7A_L (D2-PAK, 8-Leads, Body 9.9x10.2mm, Pitch 1.27mm, Lead Span 14mm, IPC High Density)
footprint TJ7A_M (D2-PAK, 8-Leads, Body 9.9x10.2mm, Pitch 1.27mm, Lead Span 14mm, IPC Low Density)
pins: 1 SW (power), 2 VIN (power), 3 BOOT, 4 GND (power), 5 IADJ (in), 6 FB (in), 7 SS (in), 8 DAP (power)

## LM22674MR-5.0
designator U?
500mA SIMPLE SWITCHER® Step-Down Voltage Regulator with Precision Enable, 8-pin PSOP; PartNumber: LM22674MR-5.0; Manufacturer: National Semiconductor; PackageTopMarking: NSXYTT*L22674*5.0; PowerWise: N; Published: 4-Dec-2008; DatasheetVersion: Oct-2008; PackageVersion: revB, Dec-2007; PackageReference: MRA08B; Publisher: Altium Limited; PackageDescription: Molded, PSOP .193 x .154 x .058in, 8 Lead, .050in Pitch, Large DAP; RoHS: Y; PinCount: 8; CompType: Switcher; Code_JEDEC: MS-012-AA; ComponentLink1Description: LM22674 Datasheet; ComponentLink1URL: http://www.national.com/ds/LM/LM22674.pdf; ComponentLink2Description: LM22674 Web Page; ComponentLink2URL: http://www.national.com/pf/LM/LM22674.html; ComponentLink3Description: MRA08B Package Page; ComponentLink3URL: http://www.national.com/packaging/folders/mra08b.html
footprint MRA08B_N (SOIC, 8-Leads, Body 4.9x3.9mm, Pitch 1.27mm, Exposed Pad, IPC Medium Density)
footprint MRA08B_L (SOIC, 8-Leads, Body 4.9x3.9mm, Pitch 1.27mm, Exposed Pad, IPC High Density)
footprint MRA08B_M (SOIC, 8-Leads, Body 4.9x3.9mm, Pitch 1.27mm, Exposed Pad, IPC Low Density)
pins: 1 BOOT, 2 NC, 3 NC, 4 FB (in), 5 EN (in), 6 GND (power), 7 VIN (power), 8 SW (power), 9 DAP (power)

## LM22674MR-5.0/NOPB
designator U?
500 mA SIMPLE SWITCHER®, Step-Down Voltage Regulator with Precision Enable, 8-pin PSOP, Pb-Free; PartNumber: LM22674MR-5.0/NOPB; Manufacturer: National Semiconductor; PackageTopMarking: NSXYTT*L22674*5.0; PowerWise: N; Published: 1-Mar-2010; DatasheetVersion: Oct-2008; PackageVersion: revB, Dec-2007; PackageReference: MRA08B; Publisher: Altium Limited; PackageDescription: Molded, PSOP .193 x .154 x .058in, 8 Lead, .050in Pitch, Large DAP; Supplier 1: Digi-Key; Supplier Part Number 1: LM22674MR-5.0-ND; RoHS: Y; PinCount: 8; CompType: Switcher; Code_JEDEC: MS-012-AA; ComponentLink1Description: LM22674 Datasheet; ComponentLink1URL: http://www.national.com/ds/LM/LM22674.pdf; ComponentLink2Description: LM22674 Web Page; ComponentLink2URL: http://www.national.com/pf/LM/LM22674.html; ComponentLink3Description: MRA08B Package Page; ComponentLink3URL: http://www.national.com/packaging/folders/mra08b.html
footprint MRA08B_N (SOIC, 8-Leads, Body 4.9x3.9mm, Pitch 1.27mm, Exposed Pad, IPC Medium Density)
footprint MRA08B_L (SOIC, 8-Leads, Body 4.9x3.9mm, Pitch 1.27mm, Exposed Pad, IPC High Density)
footprint MRA08B_M (SOIC, 8-Leads, Body 4.9x3.9mm, Pitch 1.27mm, Exposed Pad, IPC Low Density)
pins: 1 BOOT, 2 NC, 3 NC, 4 FB (in), 5 EN (in), 6 GND (power), 7 VIN (power), 8 SW (power), 9 DAP (power)

## LM22674MR-ADJ
designator U?
500mA SIMPLE SWITCHER® Step-Down Voltage Regulator with Precision Enable, 8-pin PSOP; PartNumber: LM22674MR-ADJ; Manufacturer: National Semiconductor; PackageTopMarking: NSXYTT*L22674*ADJ; PowerWise: N; Published: 4-Dec-2008; DatasheetVersion: Oct-2008; PackageVersion: revB, Dec-2007; PackageReference: MRA08B; Publisher: Altium Limited; PackageDescription: Molded, PSOP .193 x .154 x .058in, 8 Lead, .050in Pitch, Large DAP; Supplier 1: Farnell; Supplier Part Number 1: 1657737; RoHS: Y; PinCount: 8; CompType: Switcher; Code_JEDEC: MS-012-AA; ComponentLink1Description: LM22674 Datasheet; ComponentLink1URL: http://www.national.com/ds/LM/LM22674.pdf; ComponentLink2Description: LM22674 Web Page; ComponentLink2URL: http://www.national.com/pf/LM/LM22674.html; ComponentLink3Description: MRA08B Package Page; ComponentLink3URL: http://www.national.com/packaging/folders/mra08b.html
footprint MRA08B_N (SOIC, 8-Leads, Body 4.9x3.9mm, Pitch 1.27mm, Exposed Pad, IPC Medium Density)
footprint MRA08B_L (SOIC, 8-Leads, Body 4.9x3.9mm, Pitch 1.27mm, Exposed Pad, IPC High Density)
footprint MRA08B_M (SOIC, 8-Leads, Body 4.9x3.9mm, Pitch 1.27mm, Exposed Pad, IPC Low Density)
pins: 1 BOOT, 2 NC, 3 NC, 4 FB (in), 5 EN (in), 6 GND (power), 7 VIN (power), 8 SW (power), 9 DAP (power)

## LM22674MR-ADJ/NOPB
designator U?
500 mA SIMPLE SWITCHER®, Step-Down Voltage Regulator with Precision Enable, 8-pin PSOP, Pb-Free; PartNumber: LM22674MR-ADJ/NOPB; Manufacturer: National Semiconductor; PackageTopMarking: NSXYTT*L22674*ADJ; PowerWise: N; Published: 1-Mar-2010; DatasheetVersion: Oct-2008; PackageVersion: revB, Dec-2007; PackageReference: MRA08B; Publisher: Altium Limited; PackageDescription: Molded, PSOP .193 x .154 x .058in, 8 Lead, .050in Pitch, Large DAP; Supplier 1: Digi-Key; Supplier Part Number 1: LM22674MR-ADJ-ND; RoHS: Y; PinCount: 8; CompType: Switcher; Code_JEDEC: MS-012-AA; ComponentLink1Description: LM22674 Datasheet; ComponentLink1URL: http://www.national.com/ds/LM/LM22674.pdf; ComponentLink2Description: LM22674 Web Page; ComponentLink2URL: http://www.national.com/pf/LM/LM22674.html; ComponentLink3Description: MRA08B Package Page; ComponentLink3URL: http://www.national.com/packaging/folders/mra08b.html
footprint MRA08B_N (SOIC, 8-Leads, Body 4.9x3.9mm, Pitch 1.27mm, Exposed Pad, IPC Medium Density)
footprint MRA08B_L (SOIC, 8-Leads, Body 4.9x3.9mm, Pitch 1.27mm, Exposed Pad, IPC High Density)
footprint MRA08B_M (SOIC, 8-Leads, Body 4.9x3.9mm, Pitch 1.27mm, Exposed Pad, IPC Low Density)
pins: 1 BOOT, 2 NC, 3 NC, 4 FB (in), 5 EN (in), 6 GND (power), 7 VIN (power), 8 SW (power), 9 DAP (power)

## LM22674MRE-5.0/NOPB
designator U?
500 mA SIMPLE SWITCHER®, Step-Down Voltage Regulator with Precision Enable, 8-pin PSOP, Pb-Free; PartNumber: LM22674MRE-5.0/NOPB; Manufacturer: National Semiconductor; PackageTopMarking: NSXYTT*L22674*5.0; PowerWise: N; Published: 1-Mar-2010; DatasheetVersion: Oct-2008; PackageVersion: revB, Dec-2007; PackageReference: MRA08B; Publisher: Altium Limited; PackageDescription: Molded, PSOP .193 x .154 x .058in, 8 Lead, .050in Pitch, Large DAP; Supplier 1: Digi-Key; Supplier Part Number 1: LM22674MRE-5.0TR-ND; Supplier 2: Digi-Key; Supplier Part Number 2: LM22674MRE-5.0CT-ND; Supplier 3: Digi-Key; Supplier Part Number 3: LM22674MRE-5.0DKR-ND; Supplier 4: Farnell; Supplier Part Number 4: 1685803; RoHS: Y; PinCount: 8; CompType: Switcher; Code_JEDEC: MS-012-AA; ComponentLink1Description: LM22674 Datasheet; ComponentLink1URL: http://www.national.com/ds/LM/LM22674.pdf; ComponentLink2Description: LM22674 Web Page; ComponentLink2URL: http://www.national.com/pf/LM/LM22674.html; ComponentLink3Description: MRA08B Package Page; ComponentLink3URL: http://www.national.com/packaging/folders/mra08b.html
footprint MRA08B_N (SOIC, 8-Leads, Body 4.9x3.9mm, Pitch 1.27mm, Exposed Pad, IPC Medium Density)
footprint MRA08B_L (SOIC, 8-Leads, Body 4.9x3.9mm, Pitch 1.27mm, Exposed Pad, IPC High Density)
footprint MRA08B_M (SOIC, 8-Leads, Body 4.9x3.9mm, Pitch 1.27mm, Exposed Pad, IPC Low Density)
pins: 1 BOOT, 2 NC, 3 NC, 4 FB (in), 5 EN (in), 6 GND (power), 7 VIN (power), 8 SW (power), 9 DAP (power)

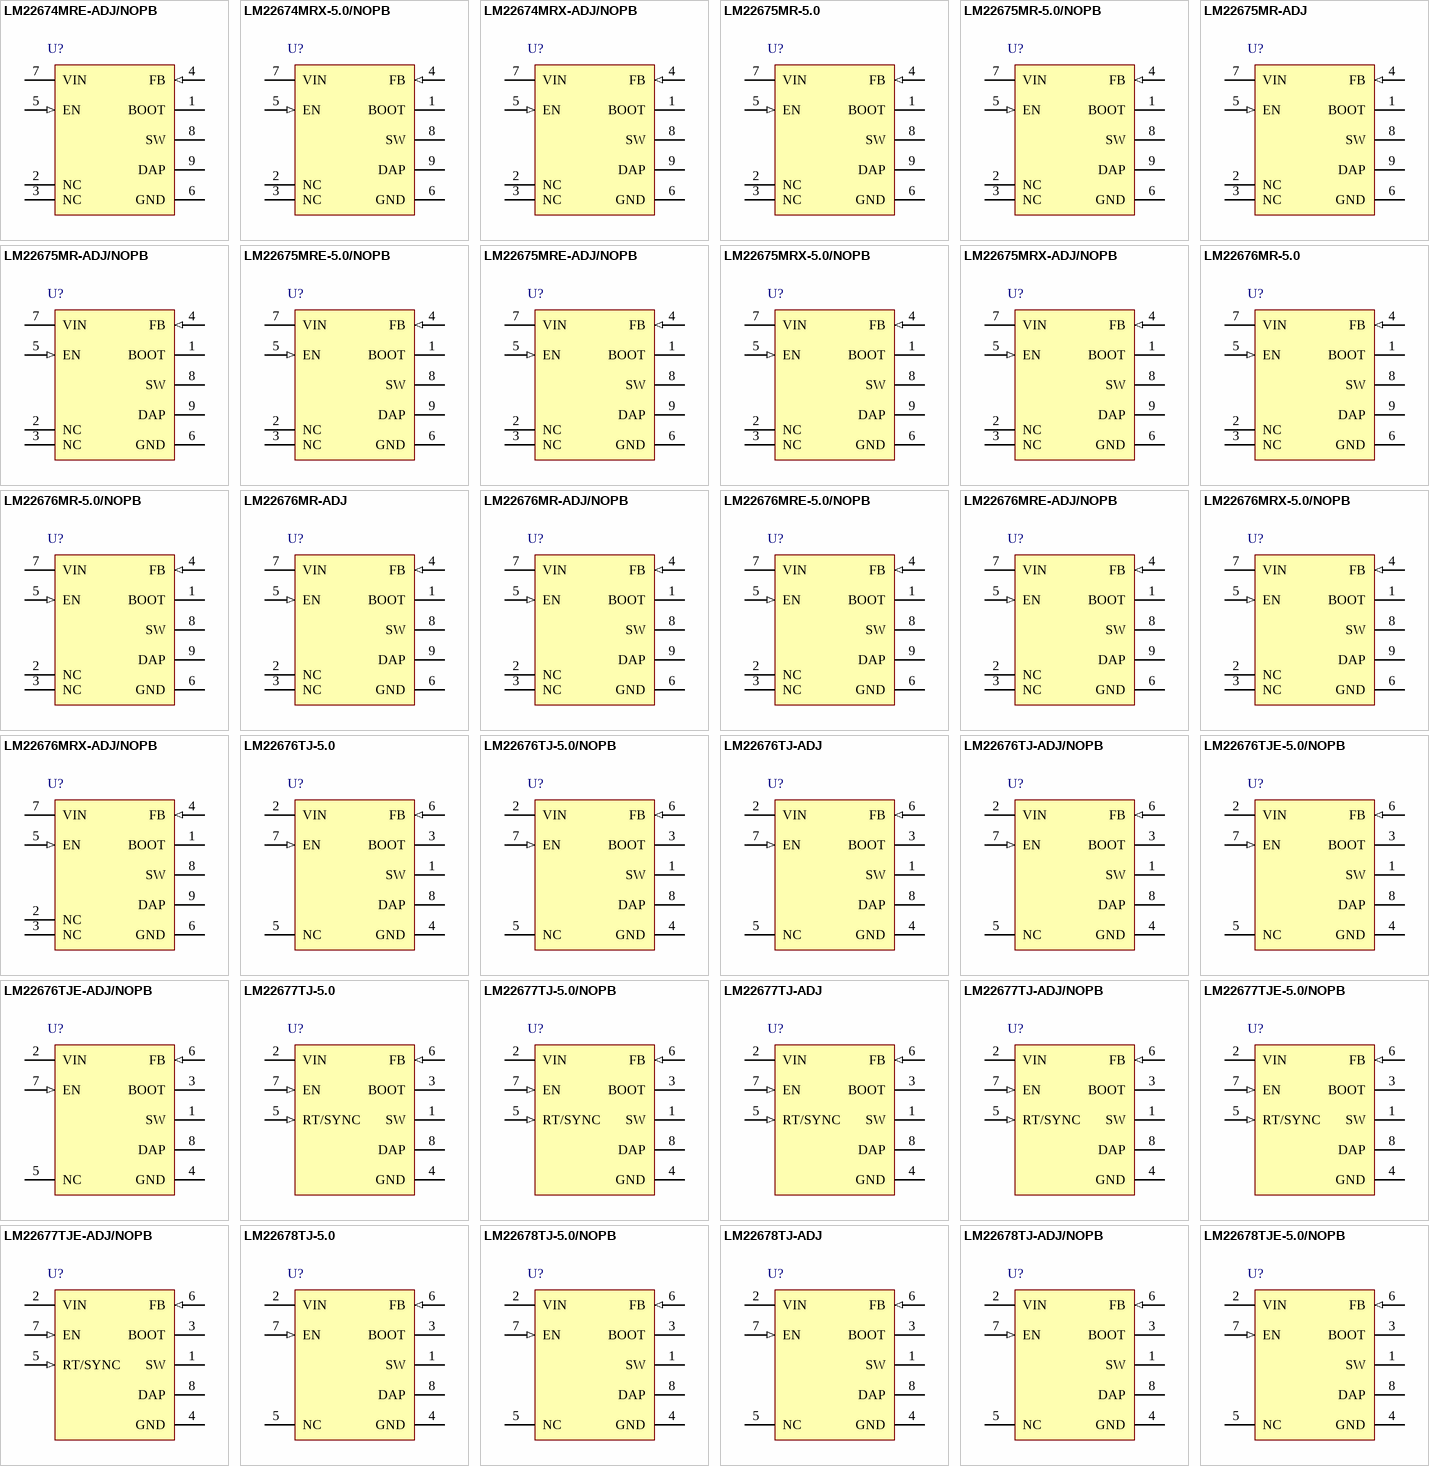
[diagram p50: symbols LM22674MRE-ADJ/NOPB to LM22678TJE-5.0/NOPB]

## LM22674MRE-ADJ/NOPB
designator U?
500 mA SIMPLE SWITCHER®, Step-Down Voltage Regulator with Precision Enable, 8-pin PSOP, Pb-Free; PartNumber: LM22674MRE-ADJ/NOPB; Manufacturer: National Semiconductor; PackageTopMarking: NSXYTT*L22674*ADJ; PowerWise: N; Published: 1-Mar-2010; DatasheetVersion: Oct-2008; PackageVersion: revB, Dec-2007; PackageReference: MRA08B; Publisher: Altium Limited; PackageDescription: Molded, PSOP .193 x .154 x .058in, 8 Lead, .050in Pitch, Large DAP; Supplier 1: Digi-Key; Supplier Part Number 1: LM22674MRE-ADJTR-ND; Supplier 2: Digi-Key; Supplier Part Number 2: LM22674MRE-ADJCT-ND; Supplier 3: Digi-Key; Supplier Part Number 3: LM22674MRE-ADJDKR-ND; Supplier 4: Farnell; Supplier Part Number 4: 1685802; RoHS: Y; PinCount: 8; CompType: Switcher; Code_JEDEC: MS-012-AA; ComponentLink1Description: LM22674 Datasheet; ComponentLink1URL: http://www.national.com/ds/LM/LM22674.pdf; ComponentLink2Description: LM22674 Web Page; ComponentLink2URL: http://www.national.com/pf/LM/LM22674.html; ComponentLink3Description: MRA08B Package Page; ComponentLink3URL: http://www.national.com/packaging/folders/mra08b.html
footprint MRA08B_N (SOIC, 8-Leads, Body 4.9x3.9mm, Pitch 1.27mm, Exposed Pad, IPC Medium Density)
footprint MRA08B_L (SOIC, 8-Leads, Body 4.9x3.9mm, Pitch 1.27mm, Exposed Pad, IPC High Density)
footprint MRA08B_M (SOIC, 8-Leads, Body 4.9x3.9mm, Pitch 1.27mm, Exposed Pad, IPC Low Density)
pins: 1 BOOT, 2 NC, 3 NC, 4 FB (in), 5 EN (in), 6 GND (power), 7 VIN (power), 8 SW (power), 9 DAP (power)

## LM22674MRX-5.0/NOPB
designator U?
500 mA SIMPLE SWITCHER®, Step-Down Voltage Regulator with Precision Enable, 8-pin PSOP, Pb-Free; PartNumber: LM22674MRX-5.0/NOPB; Manufacturer: National Semiconductor; PackageTopMarking: NSXYTT*L22674*5.0; PowerWise: N; Published: 1-Mar-2010; DatasheetVersion: Oct-2008; PackageVersion: revB, Dec-2007; PackageReference: MRA08B; Publisher: Altium Limited; PackageDescription: Molded, PSOP .193 x .154 x .058in, 8 Lead, .050in Pitch, Large DAP; Supplier 1: Digi-Key; Supplier Part Number 1: LM22674MRX-5.0-ND; RoHS: Y; PinCount: 8; CompType: Switcher; Code_JEDEC: MS-012-AA; ComponentLink1Description: LM22674 Datasheet; ComponentLink1URL: http://www.national.com/ds/LM/LM22674.pdf; ComponentLink2Description: LM22674 Web Page; ComponentLink2URL: http://www.national.com/pf/LM/LM22674.html; ComponentLink3Description: MRA08B Package Page; ComponentLink3URL: http://www.national.com/packaging/folders/mra08b.html
footprint MRA08B_N (SOIC, 8-Leads, Body 4.9x3.9mm, Pitch 1.27mm, Exposed Pad, IPC Medium Density)
footprint MRA08B_L (SOIC, 8-Leads, Body 4.9x3.9mm, Pitch 1.27mm, Exposed Pad, IPC High Density)
footprint MRA08B_M (SOIC, 8-Leads, Body 4.9x3.9mm, Pitch 1.27mm, Exposed Pad, IPC Low Density)
pins: 1 BOOT, 2 NC, 3 NC, 4 FB (in), 5 EN (in), 6 GND (power), 7 VIN (power), 8 SW (power), 9 DAP (power)

## LM22674MRX-ADJ/NOPB
designator U?
500 mA SIMPLE SWITCHER®, Step-Down Voltage Regulator with Precision Enable, 8-pin PSOP, Pb-Free; PartNumber: LM22674MRX-ADJ/NOPB; Manufacturer: National Semiconductor; PackageTopMarking: NSXYTT*L22674*ADJ; PowerWise: N; Published: 1-Mar-2010; DatasheetVersion: Oct-2008; PackageVersion: revB, Dec-2007; PackageReference: MRA08B; Publisher: Altium Limited; PackageDescription: Molded, PSOP .193 x .154 x .058in, 8 Lead, .050in Pitch, Large DAP; Supplier 1: Digi-Key; Supplier Part Number 1: LM22674MRX-ADJ-ND; RoHS: Y; PinCount: 8; CompType: Switcher; Code_JEDEC: MS-012-AA; ComponentLink1Description: LM22674 Datasheet; ComponentLink1URL: http://www.national.com/ds/LM/LM22674.pdf; ComponentLink2Description: LM22674 Web Page; ComponentLink2URL: http://www.national.com/pf/LM/LM22674.html; ComponentLink3Description: MRA08B Package Page; ComponentLink3URL: http://www.national.com/packaging/folders/mra08b.html
footprint MRA08B_N (SOIC, 8-Leads, Body 4.9x3.9mm, Pitch 1.27mm, Exposed Pad, IPC Medium Density)
footprint MRA08B_L (SOIC, 8-Leads, Body 4.9x3.9mm, Pitch 1.27mm, Exposed Pad, IPC High Density)
footprint MRA08B_M (SOIC, 8-Leads, Body 4.9x3.9mm, Pitch 1.27mm, Exposed Pad, IPC Low Density)
pins: 1 BOOT, 2 NC, 3 NC, 4 FB (in), 5 EN (in), 6 GND (power), 7 VIN (power), 8 SW (power), 9 DAP (power)